# Altium schematic symbol library BLDC.SchLib: 4 symbols
Pins are listed as number, name and electrical type; pins without a type are passive.

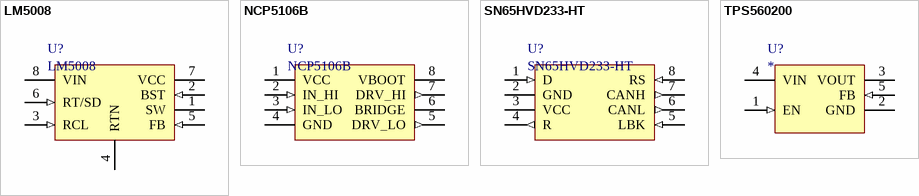
[diagram p0: symbols LM5008 to TPS560200]

## LM5008
designator U?
Manufacturer: TI; Description: LM5008 95-V, 350-mA, Constant On-Time DC/DC Buck Switching Regulator; Designer: Erhan YILMAZ; Value: LM5008; Datasheet: http://www.ti.com/lit/ds/symlink/lm5008.pdf
3D model SO-8 (PCB3D Model)
footprint VSSOP8
pins: 1 SW (power), 2 BST (in), 3 RCL (in), 4 RTN (power), 5 FB (in), 6 RT/SD (in), 7 VCC (power), 8 VIN (power)

## NCP5106B
designator U?
Manufacturer: On Semiconductor; Description: High Voltage, High and Low  Side Driver; Designer: Erhan YILMAZ; Value: NCP5106B; Datasheet: https://www.onsemi.com/pub/Collateral/NCP5106-D.PDF
footprint SO-8_L (SOIC, 8-Leads, Body 4.9x3.9mm, Pitch 1.27mm, IPC High Density)
3D model SO-8 (PCB3D Model)
pins: 1 VCC (power), 2 IN_HI (in), 3 IN_LO (in), 4 GND (power), 5 DRV_LO (out), 6 BRIDGE (power), 7 DRV_HI (out), 8 VBOOT (power)

## SN65HVD233-HT
designator U?
Manufacturer: TI; Description: SN65HVD233-HT 3.3-V CAN Transceiver; Designer: Erhan YILMAZ; Value: SN65HVD233-HT; Datasheet: http://www.ti.com/lit/ds/symlink/sn65hvd233-ht.pdf
footprint SO-8_L (SOIC, 8-Leads, Body 4.9x3.9mm, Pitch 1.27mm, IPC High Density)
3D model SO-8 (PCB3D Model)
pins: 1 D (in), 2 GND (power), 3 VCC (power), 4 R (out), 5 LBK (in), 6 CANL (out), 7 CANH (out), 8 RS (in)

## TPS560200
designator U?
Manufacturer: TI; Value: TPS560200; Description: TPS560200 4.5-V to 17-V Input, 500-mA Synchronous Step-Down Converter With  Advanced Eco-Mode™; Designer: Erhan YILMAZ; Datasheet: http://www.ti.com/lit/ds/symlink/tps560200.pdf
footprint SOT23-5 (SOT23-5 SMD)
pins: 1 EN (in), 2 GND (power), 3 VOUT (power), 4 VIN (power), 5 FB (in)